# Altium schematic symbol library SN74LS02N.SchLib: 1 symbol
Pins are listed as number, name and electrical type; pins without a type are passive.

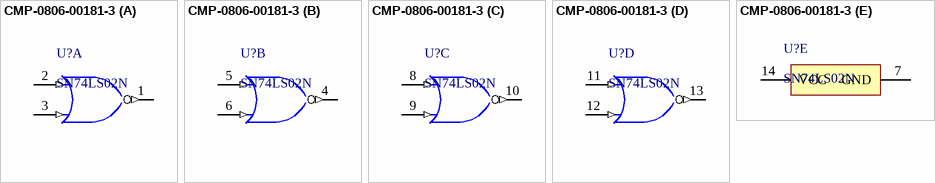
[diagram p0: symbol CMP-0806-00181-3]

## CMP-0806-00181-3
designator U?, comment SN74LS02N
Quad 2-input positive-NOR gates, N0014A, TUBE; Manufacturer: Texas Instruments; Output Drive (IOL/IOH)(Max)(mA): 0.4/-8; F @ Nom Voltage(Max)(Mhz): 35; VCC(Max)(V): 5.25; Bits(#): 4; Input Type: TTL; VCC(Min)(V): 4.75; ICC @ Nom Voltage(Max)(mA): 0.027; tpd @ Nom Voltage(Max)(ns): 22; Voltage(Nom)(V): 5; Rating: Catalog; Generic Part Number: SN74LS02; PackageReference: N0014A; Operating Temperature Range(C): 0 to 70; DatasheetVersion: SDLS027; PackageVersion: http://www.ti.com/lit/ml/mpdi002c/mpdi002c.pdf; Output Type: TTL; Code_JEDEC: MS-001
footprint N0014A (DIP, 14-Leads, Body 19.7x6.6mm, Pitch 2.54mm)
part A pins: 1 1Y (out) "1Y output", 2 1A (in) "1A input", 3 1B (in) "1B input"
part B pins: 4 2Y (out) "2Y output", 5 2A (in) "2A input", 6 2B (in) "2B input"
part C pins: 8 3A (in) "3A input", 9 3B (in) "3B input", 10 3Y (out) "3Y output"
part D pins: 11 4A (in) "4A input", 12 4B (in) "4B input", 13 4Y (out) "4Y output"
part E pins: 7 GND (power), 14 VCC (power)